# EAGLE library part V2164 (library EurorackModularParts)
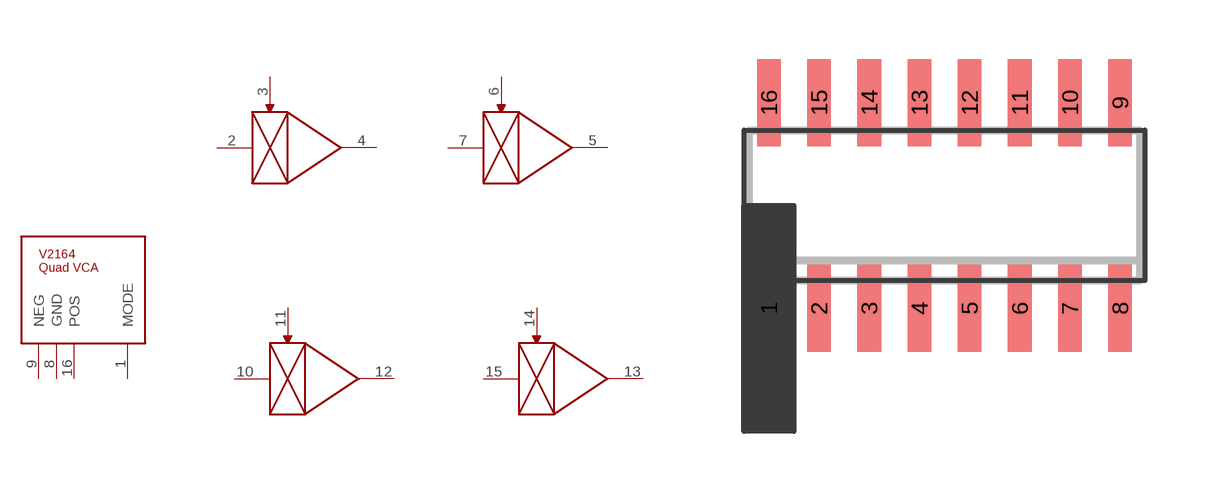
[diagram p24: symbol with the pads of SO16; footprint SO16]

Designator prefix -; gates PWR=V2164PWR&MODE A=VCA B=VCA C=VCA D=VCA

## V2164  [SO16]
1  PWR:MODE
2  A:IN
3  A:CV
4  A:OUT
5  B:OUT
6  B:CV
7  B:IN
8  PWR:GND
9  PWR:NEG
10  C:IN
11  C:CV
12  C:OUT
13  D:OUT
14  D:CV
15  D:IN
16  PWR:POS

## Footprint SO16 (pad centres in mm)
smd 0.6 x 2.2: 1 -4.445,-2.6; 2 -3.175,-2.6; 3 -1.905,-2.6; 4 -0.635,-2.6; 5 0.635,-2.6; 6 1.905,-2.6; 7 3.175,-2.6; 8 4.445,-2.6; 9 4.445,2.6; 10 3.175,2.6; 11 1.905,2.6; 12 0.635,2.6; 13 -0.635,2.6; 14 -1.905,2.6; 15 -3.175,2.6; 16 -4.445,2.6